# Altium footprint library Analog.PcbLib: 25 footprints (part 1 of 2)
Each footprint in its own frame and in the unit in brackets; x right, y up, seen from the top. Pads: shape width x height; smd on the part's side, far side on the other; paste and mask are expansions set on the pad; w line width, h text height; cw(c..) or ccw(c..) is an arc to the next point about the centre after c.
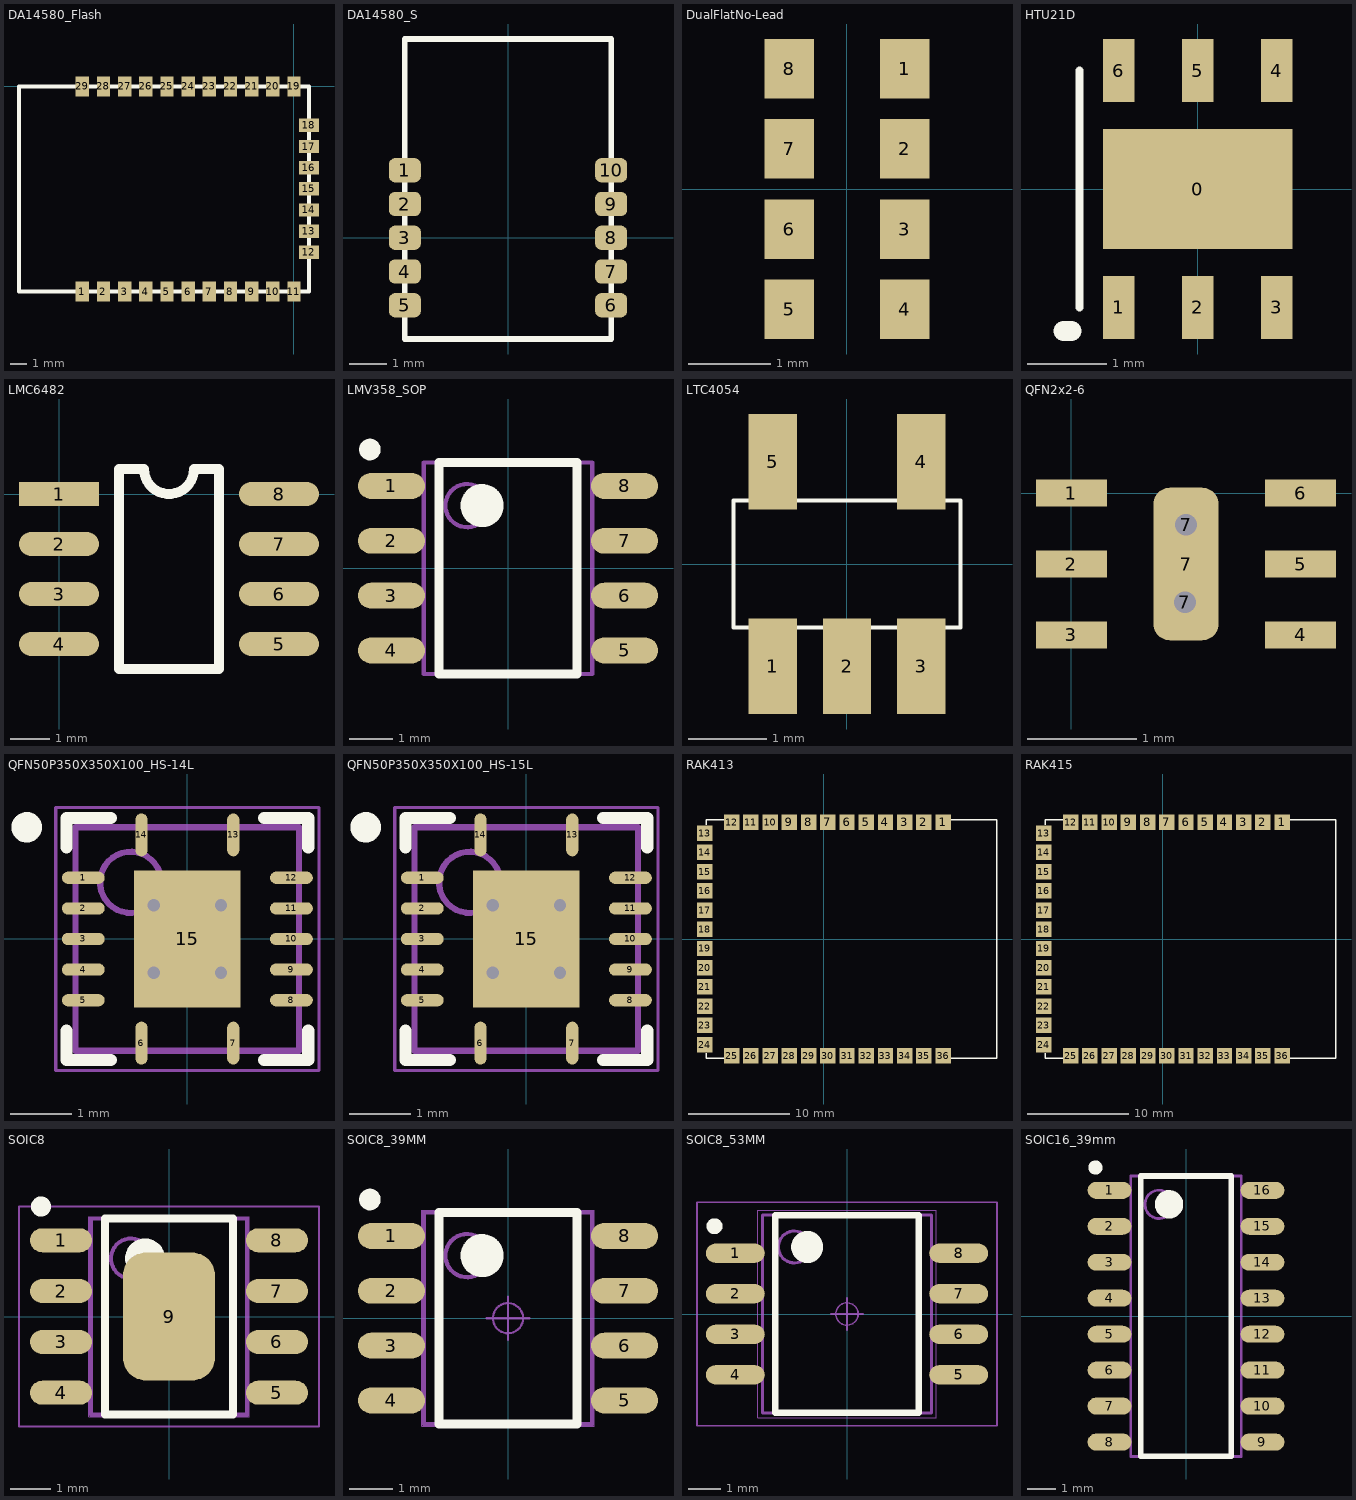
[diagram p0: the footprints below, top view; thin cyan lines are the x and y axes]

## DA14580_Flash [mm]
pads (29):
  rect 0.8x1.2 smd: 1(-12.7,-12.3) 2(-11.43,-12.3) 3(-10.16,-12.3) 4(-8.89,-12.3) 5(-7.62,-12.3) 6(-6.35,-12.3) 7(-5.08,-12.3) 8(-3.81,-12.3) 9(-2.54,-12.3) 10(-1.27,-12.3) 11(0,-12.3) 19(0,0) 20(-1.27,0) 21(-2.54,0) 22(-3.81,0) 23(-5.08,0) 24(-6.35,0) 25(-7.62,0) 26(-8.89,0) 27(-10.16,0) 28(-11.43,0) 29(-12.7,0)
  rect 1.2x0.8 smd: 12(0.9,-9.95) 13(0.9,-8.68) 14(0.9,-7.41) 15(0.9,-6.14) 16(0.9,-4.87) 17(0.9,-3.6) 18(0.9,-2.33)
Top Overlay:
  lines w0.254: -16.5,-12.3 0.9,-12.3 0.9,0 -16.5,0 -16.5,-12.3
3D body: height 1.45, standoff 0.8, extent -5.1,-10.68 -3.19,-8.16
3D body: height 1.45, standoff 0.8, extent -7.785,-6.685 -2.655,-2.155
3D body: height 0.8, standoff 0, extent -16.51,-12.26 0.92,-0.01

## DA14580_S [mm]
pads (10):
  rrect50% 0.85x0.65 smd: 1(-2.75,1.8) 2(-2.75,0.9) 3(-2.75,0) 4(-2.75,-0.9) 5(-2.75,-1.8) 6(2.75,-1.8) 7(2.75,-0.9) 8(2.75,0) 9(2.75,0.9) 10(2.75,1.8)
Top Overlay:
  lines w0.15: -2.75,-2.7 -2.75,5.3 2.75,5.3 2.75,-2.7 -2.75,-2.7
3D body: height 1, standoff 0.5, extent 0.64,2.39 1.43,2.655
3D body: height 1, standoff 0.5, extent -2.17,-1.065 -1.15,0.045
3D body: height 1, standoff 0.5, extent -0.91,-1.58 2.48,2.16
3D body: height 1, standoff 0.5, extent -2.1,-1.992 -1.31,-1.727
3D body: height 1, standoff 0.5, extent -0.43,-2.19 0.36,-1.925
3D body: height 1, standoff 0.5, extent 1.19,-2.22 1.98,-1.955
3D body: height 0.5, standoff 0, extent -2.76,-2.67 2.74,5.3

## DualFlatNo-Lead [mm]
pads (8):
  rect 0.6x0.72 smd: 1(0.7,1.455) 2(0.7,0.485) 3(0.7,-0.485) 4(0.7,-1.455) 5(-0.7,-1.455) 6(-0.7,-0.485) 7(-0.7,0.485) 8(-0.7,1.455)
3D body: height 1.35, standoff 0, extent -1.1,-1.925 1.1,1.925

## HTU21D [mm]
pads (7):
  rect 2.4x1.524 smd: 0(0,0)
  rect 0.4x0.8 smd: 1(-1,-1.5) 2(0,-1.5) 3(1,-1.5) 4(1,1.5) 5(0,1.5) 6(-1,1.5)
Top Overlay:
  lines w0.1: -1.5,-1.5 -1.5,1.5
  lines w0.254: -1.7,-1.8 -1.6,-1.8
3D body: height 1, standoff 0, extent -1.38,-1.361 1.34,1.38

## LMC6482 [mil]
pads (8):
  rect 80x24 smd: 1(0,0)
  oval 80x24 smd: 2(0,-50) 3(0,-100) 4(0,-150) 5(220,-150) 6(220,-100) 7(220,-50) 8(220,0)
Top Overlay:
  lines w10: 60,-175 160,-175 160,25 135,25 cw(c110,25) 85,25 60,25 60,-175
3D body: height 42.91, standoff 0, extent 24.02,-175.59 196.06,26.77

## LMV358_SOP [mm] "TSOP, 8-Leads, Body 3.00x3.00mm, Pitch 0.65mm, IPC Medium Density"
height 1.1
pads (8):
  oval 1.55x0.6 smd: 1(-2.7,1.905) 2(-2.7,0.635) 3(-2.7,-0.635) 4(-2.7,-1.905) 5(2.7,-1.905) 6(2.7,-0.635) 7(2.7,0.635) 8(2.7,1.905)
Top Overlay:
  circle w0.25: c-3.2,2.75 r0.125
  circle w0.5: c-0.6,1.45 r0.25
  lines w0.2: -1.6,-2.45 -1.6,2.45 1.6,2.45 1.6,-2.45 -1.6,-2.45
Mechanical 15:
  circle w0.1: c-0.95,1.45 r0.5
  lines w0.1: -1.95,-2.45 -1.95,2.45 1.95,2.45 1.95,-2.45 -1.95,-2.45
  text "1" at 0.45,-0.164 h0.75
3D body: height 1.1, standoff 0, extent -1.95,-2.47 1.93,2.46

## LTC4054 [mm]
pads (5):
  rect 0.62x1.22 smd: 1(-0.95,-1.31) 2(0,-1.31) 3(0.95,-1.31) 4(0.95,1.31) 5(-0.95,1.31)
Top Overlay:
  lines w0.051: -1.45,-0.813 1.45,-0.813 1.45,0.813 -1.45,0.813 -1.45,-0.813
3D body: height 1, standoff 0, extent -1.45,-0.82 1.45,0.81

## QFN2x2-6 [mm]
pads (9):
  rect 0.65x0.25 smd: 1(0,0) 2(0,-0.65) 3(0,-1.3) 4(2.1,-1.3) 5(2.1,-0.65) 6(2.1,0)
  round 0.3 hole 0.2: 7(1.04,-1) 7(1.05,-0.29)
  rrect50% 0.6x1.4 smd: 7(1.05,-0.65)
3D body: height 0.8, standoff 0, extent 0.22,-1.59 1.86,0.29

## QFN50P350X350X100_HS-14L [mm] "QFN, 14-Leads, Body 3.50x3.50mm, Pitch 0.50mm/1.50mm, Thermal Pad 2.24x1.74mm, IPC High Density"
height 1
pads (15):
  oval 0.7x0.2 smd: 1(-1.7,1) 2(-1.7,0.5) 3(-1.7,0) 4(-1.7,-0.5) 5(-1.7,-1) 8(1.7,-1) 9(1.7,-0.5) 10(1.7,0) 11(1.7,0.5) 12(1.7,1)
  oval 0.2x0.7 smd: 6(-0.75,-1.7) 7(0.75,-1.7) 13(0.75,1.7) 14(-0.75,1.7)
  rect 1.74x2.24 smd: 15(0,0)
via 0.55,-0.55 diameter 0.5 hole 0.2
via -0.55,-0.55 diameter 0.5 hole 0.2
via 0.55,0.55 diameter 0.5 hole 0.2
via -0.55,0.55 diameter 0.5 hole 0.2
Top Overlay:
  circle w0.25: c-2.625,1.825 r0.125
  lines w0.2: -1.975,-1.5 -1.975,-1.975 -1.25,-1.975 ; -1.975,1.5 -1.975,1.975 -1.25,1.975 ; 1.25,-1.975 1.975,-1.975 1.975,-1.5 ; 1.25,1.975 1.975,1.975 1.975,1.5
Mechanical 13:
  circle w0.1: c-0.925,0.925 r0.5
  lines w0.1: -1.825,-1.825 1.825,-1.825 1.825,1.825 -1.825,1.825 -1.825,-1.825
Mechanical 15:
  lines w0.05: -2.15,-2.15 2.15,-2.15 2.15,2.15 -2.15,2.15 -2.15,-2.15
  lines w0.1: -0.5,0 0.5,0 ; 0,-0.5 0,0.5
3D body: height 1, standoff 0.08, extent -1.825,-1.825 1.825,1.825

## QFN50P350X350X100_HS-15L [mm] "QFN, 14-Leads, Body 3.50x3.50mm, Pitch 0.50mm/1.50mm, Thermal Pad 2.24x1.74mm, IPC High Density"
height 1
pads (15):
  oval 0.7x0.2 smd: 1(-1.7,1) 2(-1.7,0.5) 3(-1.7,0) 4(-1.7,-0.5) 5(-1.7,-1) 8(1.7,-1) 9(1.7,-0.5) 10(1.7,0) 11(1.7,0.5) 12(1.7,1)
  oval 0.2x0.7 smd: 6(-0.75,-1.7) 7(0.75,-1.7) 13(0.75,1.7) 14(-0.75,1.7)
  rect 1.74x2.24 smd: 15(0,0)
via 0.55,-0.55 diameter 0.5 hole 0.2
via -0.55,-0.55 diameter 0.5 hole 0.2
via 0.55,0.55 diameter 0.5 hole 0.2
via -0.55,0.55 diameter 0.5 hole 0.2
Top Overlay:
  circle w0.25: c-2.625,1.825 r0.125
  lines w0.2: -1.975,-1.5 -1.975,-1.975 -1.25,-1.975 ; -1.975,1.5 -1.975,1.975 -1.25,1.975 ; 1.25,-1.975 1.975,-1.975 1.975,-1.5 ; 1.25,1.975 1.975,1.975 1.975,1.5
Mechanical 13:
  circle w0.1: c-0.925,0.925 r0.5
  lines w0.1: -1.825,-1.825 1.825,-1.825 1.825,1.825 -1.825,1.825 -1.825,-1.825
Mechanical 15:
  lines w0.05: -2.15,-2.15 2.15,-2.15 2.15,2.15 -2.15,2.15 -2.15,-2.15
  lines w0.1: -0.5,0 0.5,0 ; 0,-0.5 0,0.5
3D body: height 1, standoff 0.08, extent -1.825,-1.825 1.825,1.825

## RAK413 [mm]
pads (36):
  rect 1.53x1.53 smd: 1(11.811,11.557) 2(9.906,11.557) 3(8.001,11.557) 4(6.096,11.557) 5(4.191,11.557) 6(2.286,11.557) 7(0.381,11.557) 8(-1.524,11.557) 9(-3.429,11.557) 10(-5.334,11.557) 11(-7.239,11.557) 12(-9.144,11.557) 13(-11.811,10.49) 14(-11.811,8.585) 15(-11.811,6.68) 16(-11.811,4.775) 17(-11.811,2.87) 18(-11.811,0.965) 19(-11.811,-0.94) 20(-11.811,-2.845) 21(-11.811,-4.75) 22(-11.811,-6.655) 23(-11.811,-8.56) 24(-11.811,-10.465) 25(-9.144,-11.557) 26(-7.239,-11.557) 27(-5.334,-11.557) 28(-3.429,-11.557) 29(-1.524,-11.557) 30(0.381,-11.557) 31(2.286,-11.557) 32(4.191,-11.557) 33(6.096,-11.557) 34(8.001,-11.557) 35(9.906,-11.557) 36(11.811,-11.557)
Top Overlay:
  lines w0.127: -11.684,-11.303 -11.684,-11.793 -9.906,-11.793 ; -11.684,11.303 -11.684,11.811 -9.906,11.811 ; 12.573,-11.793 17.145,-11.793 17.145,11.811 12.573,11.811
3D body: height 3.4, standoff 0, extent -11.684,-11.811 17.145,11.811

## RAK415 [mm]
pads (36):
  rect 1.53x1.53 smd: 1(11.811,11.557) 2(9.906,11.557) 3(8.001,11.557) 4(6.096,11.557) 5(4.191,11.557) 6(2.286,11.557) 7(0.381,11.557) 8(-1.524,11.557) 9(-3.429,11.557) 10(-5.334,11.557) 11(-7.239,11.557) 12(-9.144,11.557) 13(-11.811,10.49) 14(-11.811,8.585) 15(-11.811,6.68) 16(-11.811,4.775) 17(-11.811,2.87) 18(-11.811,0.965) 19(-11.811,-0.94) 20(-11.811,-2.845) 21(-11.811,-4.75) 22(-11.811,-6.655) 23(-11.811,-8.56) 24(-11.811,-10.465) 25(-9.144,-11.557) 26(-7.239,-11.557) 27(-5.334,-11.557) 28(-3.429,-11.557) 29(-1.524,-11.557) 30(0.381,-11.557) 31(2.286,-11.557) 32(4.191,-11.557) 33(6.096,-11.557) 34(8.001,-11.557) 35(9.906,-11.557) 36(11.811,-11.557)
Top Overlay:
  lines w0.127: -11.684,-11.303 -11.684,-11.793 -9.906,-11.793 ; -11.684,11.303 -11.684,11.811 -9.906,11.811 ; 12.573,-11.793 17.145,-11.793 17.145,11.811 12.573,11.811
3D body: height 3.4, standoff 0, extent -11.684,-11.811 17.145,11.811

## SOIC8 [mm]
pads (9):
  oval 1.55x0.6 smd: 1(-2.7,1.905) 2(-2.7,0.635) 3(-2.7,-0.635) 4(-2.7,-1.905) 5(2.7,-1.905) 6(2.7,-0.635) 7(2.7,0.635) 8(2.7,1.905)
  rrect50% 2.3x3.2 smd: 9(0,0)
Top Overlay:
  circle w0.25: c-3.2,2.75 r0.125
  circle w0.5: c-0.6,1.45 r0.25
  lines w0.2: -1.6,-2.45 -1.6,2.45 1.6,2.45 1.6,-2.45 -1.6,-2.45
Mechanical 15:
  circle w0.1: c-0.95,1.45 r0.5
  lines w0.1: -1.95,-2.45 -1.95,2.45 1.95,2.45 1.95,-2.45 -1.95,-2.45
  text "1" at 0.45,-0.164 h0.75
Mechanical 16:
  circle w0.05: c0,0 r0.35
  lines w0.001: -2,-2.5 -2,2.5 2,2.5 2,-2.5 -2,-2.5
  lines w0.05: -0.5,0 0.5,0 ; 0,-0.5 0,0.5 ; -3.75,-2.75 -3.75,2.75 3.75,2.75 3.75,-2.75 -3.75,-2.75
3D body: height 1.35, standoff 0, extent -1.651,-2.413 1.651,2.413

## SOIC8_39MM [mm]
pads (8):
  oval 1.55x0.6 smd: 1(-2.7,1.905) 2(-2.7,0.635) 3(-2.7,-0.635) 4(-2.7,-1.905) 5(2.7,-1.905) 6(2.7,-0.635) 7(2.7,0.635) 8(2.7,1.905)
Top Overlay:
  circle w0.5: c-0.6,1.45 r0.25
  circle w0.25: c-3.2,2.75 r0.125
  lines w0.2: -1.6,-2.45 1.6,-2.45 1.6,2.45 -1.6,2.45 -1.6,-2.45
Mechanical 15:
  circle w0.1: c-0.95,1.45 r0.5
  lines w0.1: -1.95,-2.45 1.95,-2.45 1.95,2.45 -1.95,2.45 -1.95,-2.45
  text "1" at 0.45,-0.164 h0.75
Mechanical 16:
  circle w0.05: c0,0 r0.35
  lines w0.001: -2,-2.5 2,-2.5 2,2.5 -2,2.5 -2,-2.5
  lines w0.05: -0.5,0 0.5,0 ; 0,-0.5 0,0.5
3D body: height 3.4, standoff 0, extent -1.651,-2.413 1.651,2.413

## SOIC8_53MM [mm]
pads (8):
  oval 1.85x0.6 smd: 1(-3.51,1.915) 2(-3.51,0.645) 3(-3.51,-0.625) 4(-3.51,-1.895) 5(3.49,-1.895) 6(3.49,-0.625) 7(3.49,0.645) 8(3.49,1.915)
Top Overlay:
  circle w0.5: c-1.26,2.11 r0.25
  circle w0.25: c-4.16,2.76 r0.125
  lines w0.2: -2.26,-3.09 2.24,-3.09 2.24,3.11 -2.26,3.11 -2.26,-3.09
Mechanical 15:
  circle w0.1: c-1.66,2.11 r0.5
  lines w0.1: -2.66,-3.09 2.64,-3.09 2.64,3.11 -2.66,3.11 -2.66,-3.09
  text "1" at 0.44,-0.154 h0.75
Mechanical 16:
  circle w0.05: c-0.01,0.01 r0.35
  lines w0.001: -2.81,-3.24 2.79,-3.24 2.79,3.26 -2.81,3.26 -2.81,-3.24
  lines w0.05: -0.51,0.01 0.49,0.01 ; -0.01,-0.49 -0.01,0.51 ; -4.71,-3.49 4.69,-3.49 4.69,3.51 -4.71,3.51 -4.71,-3.49
3D body: height 3.4, standoff 0, extent -2.26,-3.11 2.24,3.11

## SOIC16_39mm [mm]
pads (16):
  oval 1.55x0.6 smd: 1(-2.7,4.445) 2(-2.7,3.175) 3(-2.7,1.905) 4(-2.7,0.635) 5(-2.7,-0.635) 6(-2.7,-1.905) 7(-2.7,-3.175) 8(-2.7,-4.445) 9(2.7,-4.445) 10(2.7,-3.175) 11(2.7,-1.905) 12(2.7,-0.635) 13(2.7,0.635) 14(2.7,1.905) 15(2.7,3.175) 16(2.7,4.445)
Top Overlay:
  circle w0.25: c-3.2,5.25 r0.125
  circle w0.5: c-0.6,3.95 r0.25
  lines w0.2: -1.6,-4.95 -1.6,4.95 1.6,4.95 1.6,-4.95 -1.6,-4.95
Mechanical 15:
  circle w0.1: c-0.95,3.95 r0.5
  lines w0.1: -1.95,-4.95 -1.95,4.95 1.95,4.95 1.95,-4.95 -1.95,-4.95
  text "1" at 0.45,-0.164 h0.75
3D body: height 1.2, standoff 0, extent -1.651,-4.953 1.651,4.953